# Altium footprint library SAMTEC_TFM.PCBLIB: 1 footprints
Each footprint in its own frame and in the unit in brackets; x right, y up, seen from the top. Pads: shape width x height; smd on the part's side, far side on the other; paste and mask are expansions set on the pad; w line width, h text height; cw(c..) or ccw(c..) is an arc to the next point about the centre after c.
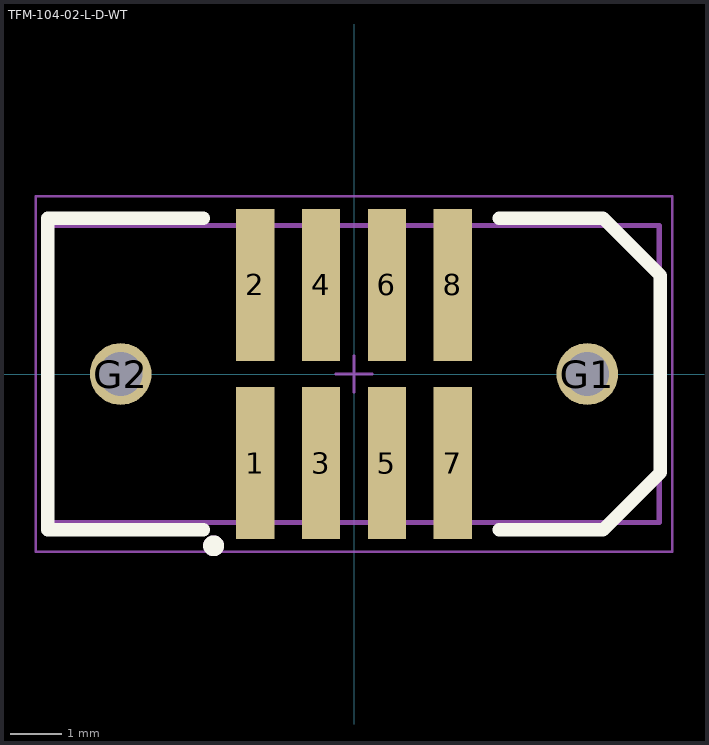
[diagram p0: the footprint, top view; thin cyan lines are the x and y axes]

## TFM-104-02-L-D-WT [mm]
pads (10):
  rect 0.74x2.92 smd: 1(-1.905,-1.715) 2(-1.905,1.715) 3(-0.635,-1.715) 4(-0.635,1.715) 5(0.635,-1.715) 6(0.635,1.715) 7(1.905,-1.715) 8(1.905,1.715)
  round 1.19 hole 0.84: G1(4.495,0) G2(-4.495,0)
Top Overlay:
  circle w0.2: c-2.705,-3.31 r0.1
  lines w0.254: -2.9,-3 -5.9,-3 -5.9,3 -2.9,3 ; 2.8,-3 4.8,-3 5.9,-1.9 5.9,1.9 4.8,3 2.8,3
Top Paste:
  circle w0.955: c-4.495,0 r0.477
  circle w0.955: c4.495,0 r0.477
Top Assembly:
  circle w0.2: c-2.705,-3.31 r0.1
  lines w0.1: -5.88,-2.86 5.88,-2.86 5.88,2.86 -5.88,2.86 -5.88,-2.86
Top Courtyard:
  lines w0.05: -6.13,-3.425 6.13,-3.425 6.13,3.425 -6.13,3.425 -6.13,-3.425
Top Designator:
  text ".Designator" at -1,-0.3 h0.76
Top Component Center:
  lines w0.05: -0.35,0 0.35,0 ; 0,-0.35 0,0.35
3D body "TFM-104-02-L-D-WT.stp": height 5.74, standoff -2.21, extent -5.88,-2.984 5.88,2.984